# EAGLE library part TPS5430DDAR (library _mtvl_ic)
3-A WIDE-INPUT-RANGE STEP-DOWN SWIFT CONVERTER
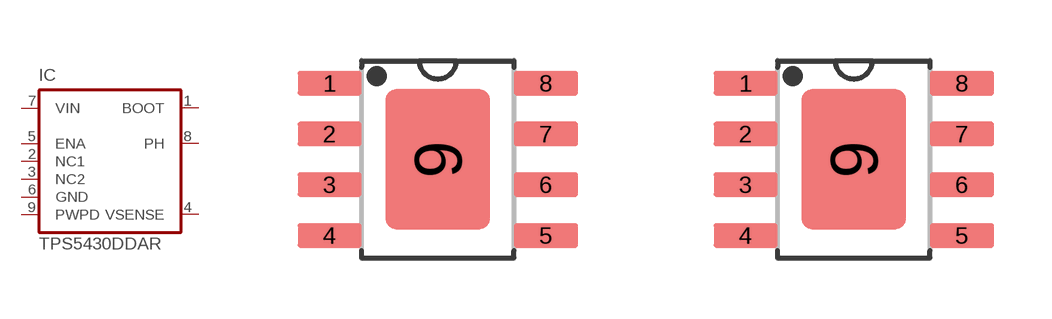
[diagram p23: symbol with the pads of SOIC8N; footprints SOIC8N, TPS5430DDAR]

Designator prefix IC

## TPS5430DDAR_  [SOIC8N]
1  BOOT  pas
2  NC1  nc
3  NC2  nc
4  VSENSE  in
5  ENA  pas
6  GND  pas
7  VIN  in
8  PH  out
9  PWPD  pas

## TPS5430DDAR  [TPS5430DDAR]
Pads as for SOIC8N

## Footprint SOIC8N (pad centres in mm)
Small Outline IC with Power Pad
smd 1.6 x 0.61: 1 -2.705,1.905; 2 -2.705,0.635; 3 -2.705,-0.635; 4 -2.705,-1.905; 5 2.705,-1.905; 6 2.705,-0.635; 7 2.705,0.635; 8 2.705,1.905
smd 2.616 x 3.505: 9 0,0

## Footprint TPS5430DDAR (pad centres in mm)
smd 1.6 x 0.61: 1 -2.705,1.905; 2 -2.705,0.635; 3 -2.705,-0.635; 4 -2.705,-1.905; 5 2.705,-1.905; 6 2.705,-0.635; 7 2.705,0.635; 8 2.705,1.905
smd 2.616 x 3.505: 9 0,0